# Altium footprint library Разное_discrete.PcbLib: 51 footprints (part 3 of 4)
Each footprint in its own frame and in the unit in brackets; x right, y up, seen from the top. Pads: shape width x height; smd on the part's side, far side on the other; paste and mask are expansions set on the pad; w line width, h text height; cw(c..) or ccw(c..) is an arc to the next point about the centre after c.
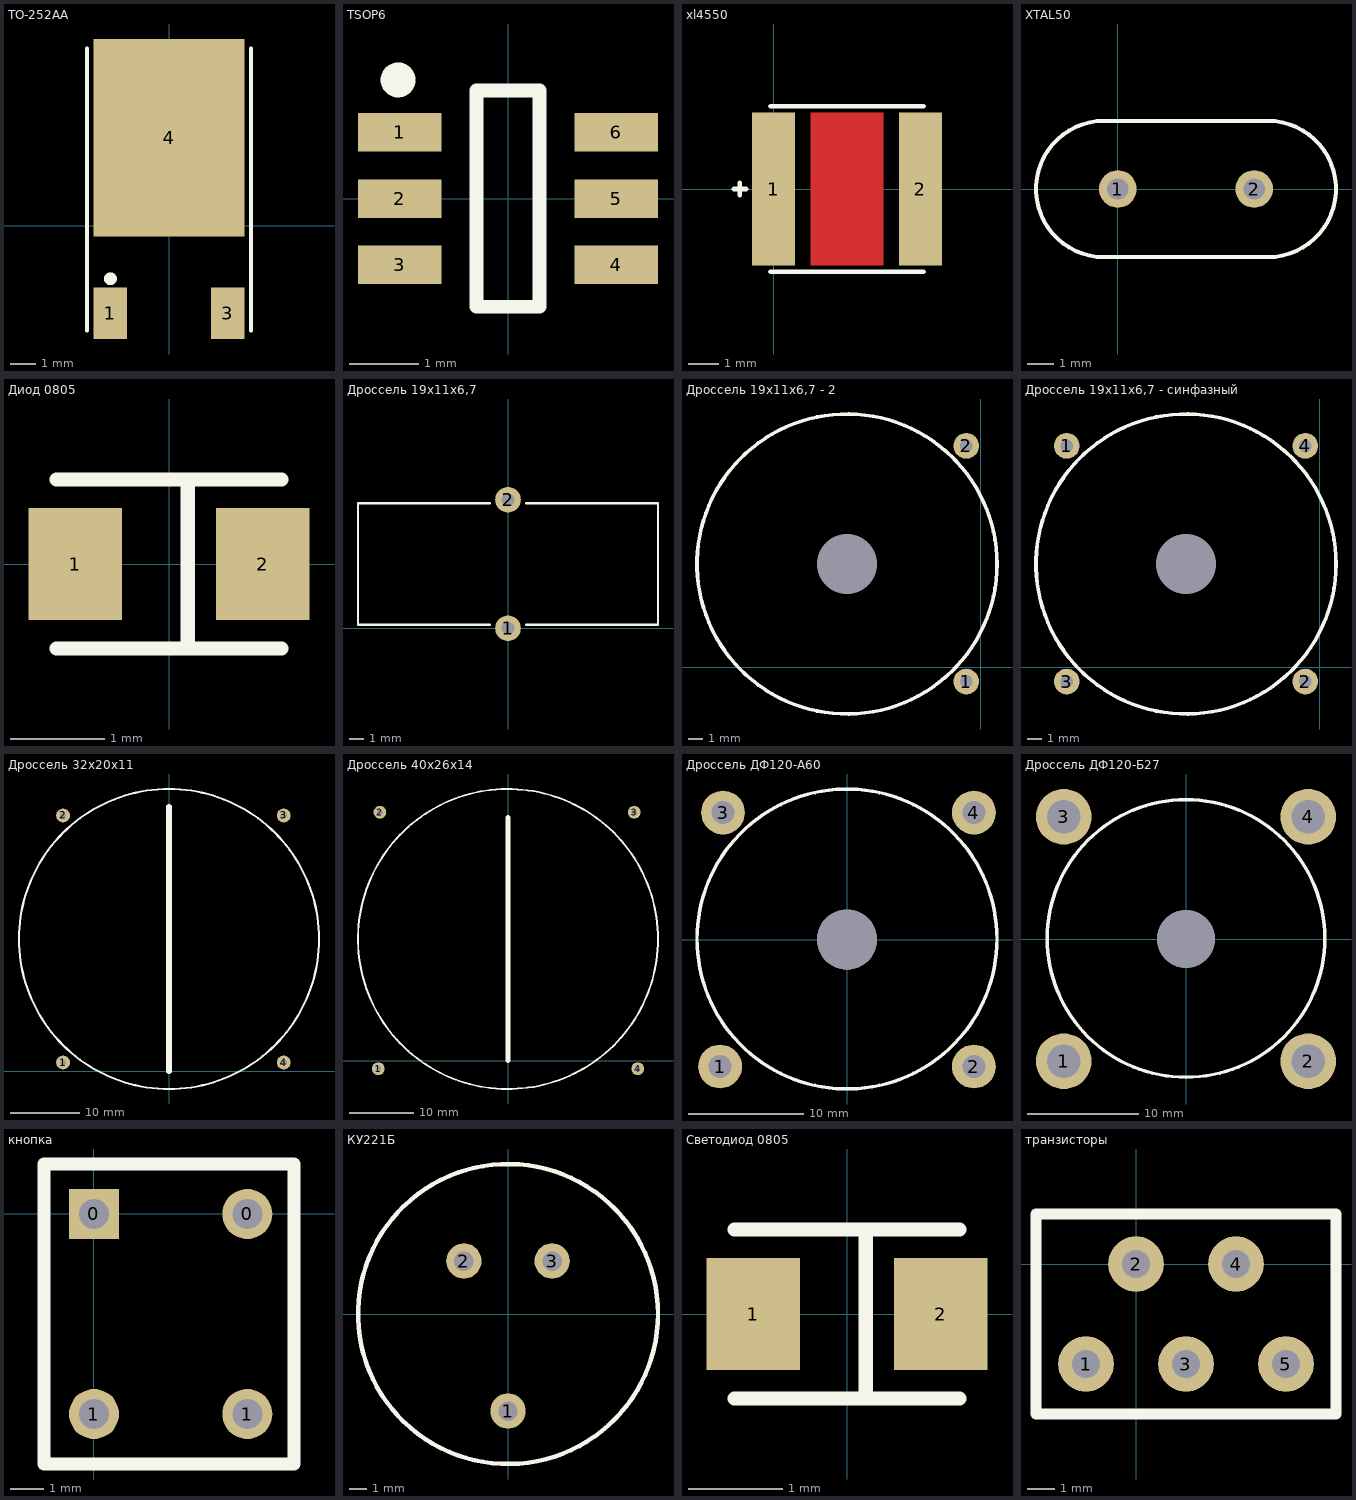
[diagram p2: the footprints below, top view; thin cyan lines are the x and y axes]

## TO-252AA [mm] "D-PAK/TO-252-AA; 3 Leads (1 Cropped); Body 10.4 (inc. leads) x 6.7 mm (LxW max)"
height 2.38
pads (3):
  rect 1.3x2 smd: 1(-2.285,-3.425) 3(2.285,-3.425)
  rect 5.9x7.7 smd: 4(0,3.425)
Top Overlay:
  circle w0.25: c-2.285,-2.075 r0.125
  lines w0.15: -3.2,-4.1 -3.2,6.9 ; 3.2,-4.1 3.2,6.9

## TSOP6 [mm] "TSOP, 8-Leads, Body 3x3mm, Pitch 0.65mm, IPC Medium Density"
height 1.1
pads (6):
  rect 1.2x0.55 smd: 1(-1.555,0.95) 2(-1.555,0) 3(-1.555,-0.95) 4(1.545,-0.95) 5(1.545,0) 6(1.545,0.95)
Top Overlay:
  circle w0.25: c-1.58,1.7 r0.125
  lines w0.2: -0.455,-1.55 0.445,-1.55 0.445,1.55 -0.455,1.55 -0.455,-1.55
3D body: height 1.1, standoff 0, extent -1.555,-1.4 1.545,1.4

## xl4550 [mm]
height 3.36
pads (2):
  rect 1.4x5 smd: 1(0,0) 2(4.8,0)
Top Layer:
  rectangle: 1.2,-2.5 3.6,2.5
Top Overlay:
  lines w0.15: -1.3,0 -0.9,0 ; -1.1,-0.2 -1.1,0.2 ; -0.1,-2.7 4.9,-2.7 ; -0.1,2.7 4.9,2.7
3D body: height 3.3, standoff 0, extent 0.3,-2.1 4.483,2.092
3D body: height 0.6, standoff 0, extent -0.1,-2.5 4.9,2.5

## XTAL50 [mm]
pads (2):
  round 1.4 hole 0.8: 1(0,0) 2(5.08,0)
Top Overlay:
  lines w0.15: -0.508,-2.54 cw(c-0.508,0) -0.508,2.54 5.588,2.54 cw(c5.588,0) 5.588,-2.54 -0.508,-2.54
3D body: height 1.47, standoff -4.13, extent -3.048,-2.336 8.124,2.336

## Диод 0805 [mm] "Диод 0805"
height 0.55
pads (2):
  rect 1x1.2 smd: 1(-1,0) 2(1,0)
Top Overlay:
  lines w0.15: -1.2,-0.9 1.2,-0.9 ; -1.2,0.9 1.2,0.9 ; 0.2,-0.9 0.2,0.9
3D body: height 1.1, standoff 0, extent -1.3,-0.675 1.3,0.675

## Дроссель 19х11х6,7 [mm]
pads (2):
  round 1.8 hole 0.9: 1(0,0) 2(0,9)
Top Overlay:
  lines w0.15: -1.25,0.25 -10.5,0.25 -10.5,8.75 -1.25,8.75 ; 1.25,0.25 10.5,0.25 10.5,8.75 1.25,8.75
3D body: height 2, standoff 0, extent -0.397,-0.398 0.4,0.4
3D body: height 2, standoff 0, extent -0.4,8.601 0.397,9.399
3D body: height 21, standoff 0, extent -10.5,0.25 10.5,8.75

## Дроссель 19х11х6,7 - 2 [mm]
pads (3):
  round 1.8 hole 0.9: 1(-1,-1) 2(-1,15.5)
  round 0 hole 4.2: ""(-9.35,7.228)
Top Overlay:
  circle w0.254: c-9.35,7.228 r10.5
3D body: height 2, standoff 0, extent -1.5,-1.5 -0.703,-0.702
3D body: height 2, standoff 0, extent -1.5,15.101 -0.703,15.899
3D body: height -0.5, standoff -9.5, extent -19.759,-3.259 1.159,17.7

## Дроссель 19х11х6,7 - синфазный [mm]
pads (5):
  round 1.8 hole 0.9: 1(-17.7,15.5) 2(-1,-1) 3(-17.7,-1) 4(-1,15.5)
  round 0 hole 4.2: ""(-9.35,7.228)
Top Overlay:
  circle w0.254: c-9.35,7.228 r10.5
3D body: height -0.5, standoff -9.5, extent -19.759,-3.259 1.159,17.7
3D body: height 2, standoff 0, extent -1.5,15.101 -0.703,15.899
3D body: height 2, standoff 0, extent -1.5,-1.5 -0.703,-0.702

## Дроссель 32х20х11 [mm]
pads (4):
  round 2 hole 0.9: 1(-15.24,1.27) 2(-15.24,36.83) 3(16.51,36.83) 4(16.51,1.27)
Top Overlay:
  circle w0.3: c0,19.05 r21.59
  lines w0.8: 0,0 0,38.1
3D body: height 17, standoff 0, extent -20.066,-1.016 19.776,38.905

## Дроссель 40х26х14 [mm]
pads (4):
  round 2 hole 0.9: 1(-20.32,-1.27) 2(-20.066,38.905) 3(19.776,38.905) 4(20.32,-1.27)
Top Overlay:
  circle w0.3: c0,19.05 r23.5
  lines w0.8: 0,0 0,38.1
3D body: height 17, standoff 0, extent -22.86,-3.905 22.959,42.005

## Дроссель ДФ120-А60 [mm]
height 12
pads (5):
  round 3.8 hole 2: 1(-11,-11) 2(11,-11) 3(-10.746,11) 4(11,11)
  round 5.2 hole 5.2 unplated: ""(0,0)
Top Overlay:
  circle w0.3: c0,0.05 r13
3D body: height 12, standoff 0, extent -12.898,-12.974 13,12.974

## Дроссель ДФ120-Б27 [mm]
height 11
pads (5):
  round 5 hole 3: 1(-11.008,-11.008) 2(11.008,-11.008) 3(-11.008,11.008) 4(11.008,11.008)
  round 5.2 hole 5.2 unplated: ""(0,0)
Top Overlay:
  circle w0.3: c0,0.05 r12.5
3D body: height 11, standoff 0, extent -12.401,-12.475 12.5,12.475

## кнопка [mm] "DIP; 8 Leads; Row Spacing 7.62 mm; Pitch 2.54 mm"
height 5.08
pads (4):
  rect 1.5x1.5 hole 0.9: 0(0,0)
  round 1.5 hole 0.9: 0(4.6,0) 1(0,-6) 1(4.6,-6)
Top Overlay:
  lines w0.4: -1.5,-7.5 -1.5,1.5 6,1.5 6,-7.5 -1.5,-7.5

## КУ221Б [mm]
pads (3):
  round 2 hole 1.1: 1(0,-5.5) 2(-2.5,3) 3(2.5,3)
Top Overlay:
  circle w0.254: c0,0 r8.5
3D body: height 2.5, standoff 0, extent -8.5,-8.5 8.433,8.466
3D body: height 8, standoff 0, extent -5.976,-5.976 5.976,6

## Светодиод 0805 [mm]
height 1
pads (2):
  rect 1x1.2 smd: 1(-1,0) 2(1,0)
Top Overlay:
  lines w0.15: -1.2,-0.9 1.2,-0.9 ; -1.2,0.9 1.2,0.9 ; 0.2,-0.9 0.2,0.9
3D body: height 0.5, standoff 0.1, extent -1.251,-0.625 1.249,0.625
3D body: height 1, standoff 0.1, extent -0.751,-0.625 0.749,0.625

## транзисторы [mm] "DIP; 8 Leads; Row Spacing 7.62 mm; Pitch 2.54 mm"
height 5.08
pads (5):
  round 2 hole 1: 1(-1.8,-3.6) 2(0,0) 3(1.8,-3.6) 4(3.6,0) 5(5.4,-3.6)
Top Overlay:
  lines w0.4: -3.6,-5.4 -3.6,1.8 7.2,1.8 7.2,-5.4 -3.6,-5.4